# EAGLE library part AD597 (library Corey)
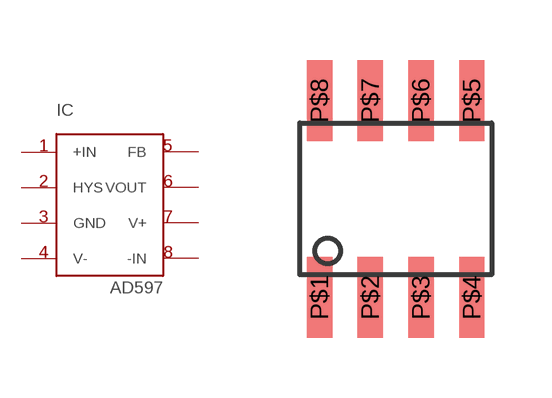
[diagram p0: symbol with the pads of SO-8; footprint SO-8]

Designator prefix IC

## AD597SO-8  [SO-8]
P$1  +IN  in
P$2  HYS
P$3  GND  pwr
P$4  V-  pwr
P$5  FB
P$6  VOUT  out
P$7  V+  pwr
P$8  -IN  in

## Footprint SO-8 (pad centres in mm)
Type K Thermocouple Amplifier
smd 0.635 x 2.032: P$1 -1.905,-2.465; P$2 -0.635,-2.465; P$3 0.635,-2.465; P$4 1.905,-2.465; P$5 1.905,2.465; P$6 0.635,2.465; P$7 -0.635,2.465; P$8 -1.905,2.465